# Altium schematic symbol library 2-3P针座_2025-04-07.SCHLIB: 1 symbol
Pins are listed as number, name and electrical type; pins without a type are passive.

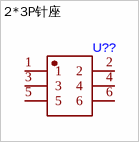
[diagram p0: symbol 2*3P针座]

## 2*3P针座
designator U??
footprint HDR-SMD_6P-P1.27-V-M-R2-C3-S1.27-LS5.5
pins: 1, 2, 3, 4, 5, 6